# Altium footprint library Housing, XAP-04V-1.PcbLib: 1 footprints
Each footprint in its own frame and in the unit in brackets; x right, y up, seen from the top. Pads: shape width x height; smd on the part's side, far side on the other; paste and mask are expansions set on the pad; w line width, h text height; cw(c..) or ccw(c..) is an arc to the next point about the centre after c.

## Housing, XAP-04V-1 [mm] "Housing, XAP-04V-1"
3D body "JST - XA -1x4 - Through Hole, Side Entry - XAP-04V-1.step": height 6.3, standoff -0.6, extent -6.15,-5 6.15,4.5